# Altium schematic symbol library Driver.SchLib: 24 symbols
Pins are listed as number, name and electrical type; pins without a type are passive.

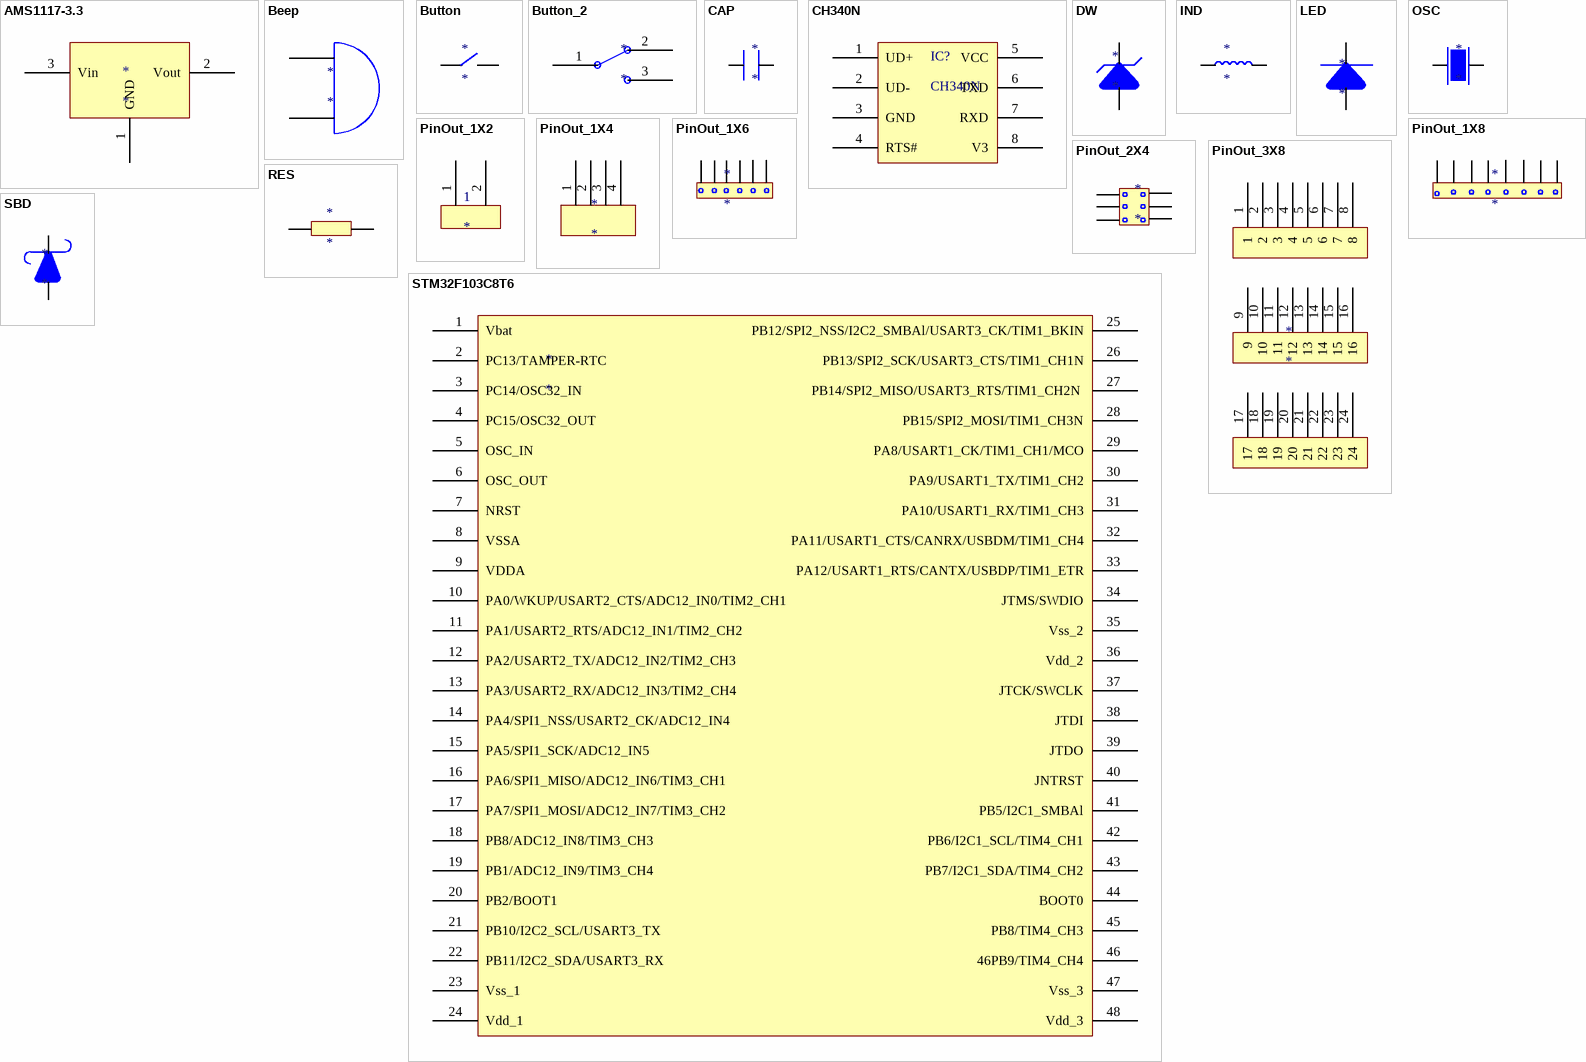
[diagram p0: symbols AMS1117-3.3 to STM32F103C8T6]

## AMS1117-3.3
designator *
pins: 1 GND, 2 Vout, 3 Vin

## Beep
designator *
pins: 1, 2

## Button
designator *
pins: 1, 2

## Button_2
designator *
pins: 1, 2, 3

## CAP
designator *
pins: 1, 2

## CH340N
designator IC?
pins: 1 UD+, 2 UD-, 3 GND, 4 RTS#, 5 VCC, 6 TXD, 7 RXD, 8 V3

## DW
designator *
pins: 1 -, 2 +

## IND
designator *
pins: 1, 2

## LED
designator *
pins: 1 -, 2 +

## OSC
designator *
pins: 1, 2

## PinOut_1X2
designator 1
pins: 1, 2

## PinOut_1X4
designator *
pins: 1, 2, 3, 4

## PinOut_1X6
designator *
pins: 1, 2, 3, 4, 5, 6

## PinOut_1X8
designator *
pins: 1, 2, 3, 4, 5, 6, 7, 8

## PinOut_2X4
designator *
pins: 1, 2, 3, 4, 5, 6

## PinOut_3X8
designator *
pins: 1, 2, 3, 4, 5, 6, 7, 8, 9, 10, 11, 12, 13, 14, 15, 16, 17, 18, 19, 20, 21, 22, 23, 24

## RES
designator *
pins: 1, 2

## SBD
designator *
pins: 1, 2

## STM32F103C8T6
designator *
pins: 1 Vbat, 2 PC13/TAMPER-RTC, 3 PC14/OSC32_IN, 4 PC15/OSC32_OUT, 5 OSC_IN, 6 OSC_OUT, 7 NRST, 8 VSSA, 9 VDDA, 10 PA0/WKUP/USART2_CTS/ADC12_IN0/TIM2_CH1, 11 PA1/USART2_RTS/ADC12_IN1/TIM2_CH2, 12 PA2/USART2_TX/ADC12_IN2/TIM2_CH3, 13 PA3/USART2_RX/ADC12_IN3/TIM2_CH4, 14 PA4/SPI1_NSS/USART2_CK/ADC12_IN4, 15 PA5/SPI1_SCK/ADC12_IN5, 16 PA6/SPI1_MISO/ADC12_IN6/TIM3_CH1, 17 PA7/SPI1_MOSI/ADC12_IN7/TIM3_CH2, 18 PB8/ADC12_IN8/TIM3_CH3, 19 PB1/ADC12_IN9/TIM3_CH4, 20 PB2/BOOT1, 21 PB10/I2C2_SCL/USART3_TX, 22 PB11/I2C2_SDA/USART3_RX, 23 Vss_1, 24 Vdd_1, 25 PB12/SPI2_NSS/I2C2_SMBAl/USART3_CK/TIM1_BKIN, 26 PB13/SPI2_SCK/USART3_CTS/TIM1_CH1N, 27 PB14/SPI2_MISO/USART3_RTS/TIM1_CH2N , 28 PB15/SPI2_MOSI/TIM1_CH3N, 29 PA8/USART1_CK/TIM1_CH1/MCO, 30 PA9/USART1_TX/TIM1_CH2, 31 PA10/USART1_RX/TIM1_CH3, 32 PA11/USART1_CTS/CANRX/USBDM/TIM1_CH4, 33 PA12/USART1_RTS/CANTX/USBDP/TIM1_ETR, 34 JTMS/SWDIO, 35 Vss_2, 36 Vdd_2, 37 JTCK/SWCLK, 38 JTDI, 39 JTDO, 40 JNTRST, 41 PB5/I2C1_SMBAl, 42 PB6/I2C1_SCL/TIM4_CH1, 43 PB7/I2C1_SDA/TIM4_CH2, 44 BOOT0, 45 PB8/TIM4_CH3, 46 46PB9/TIM4_CH4, 47 Vss_3, 48 Vdd_3

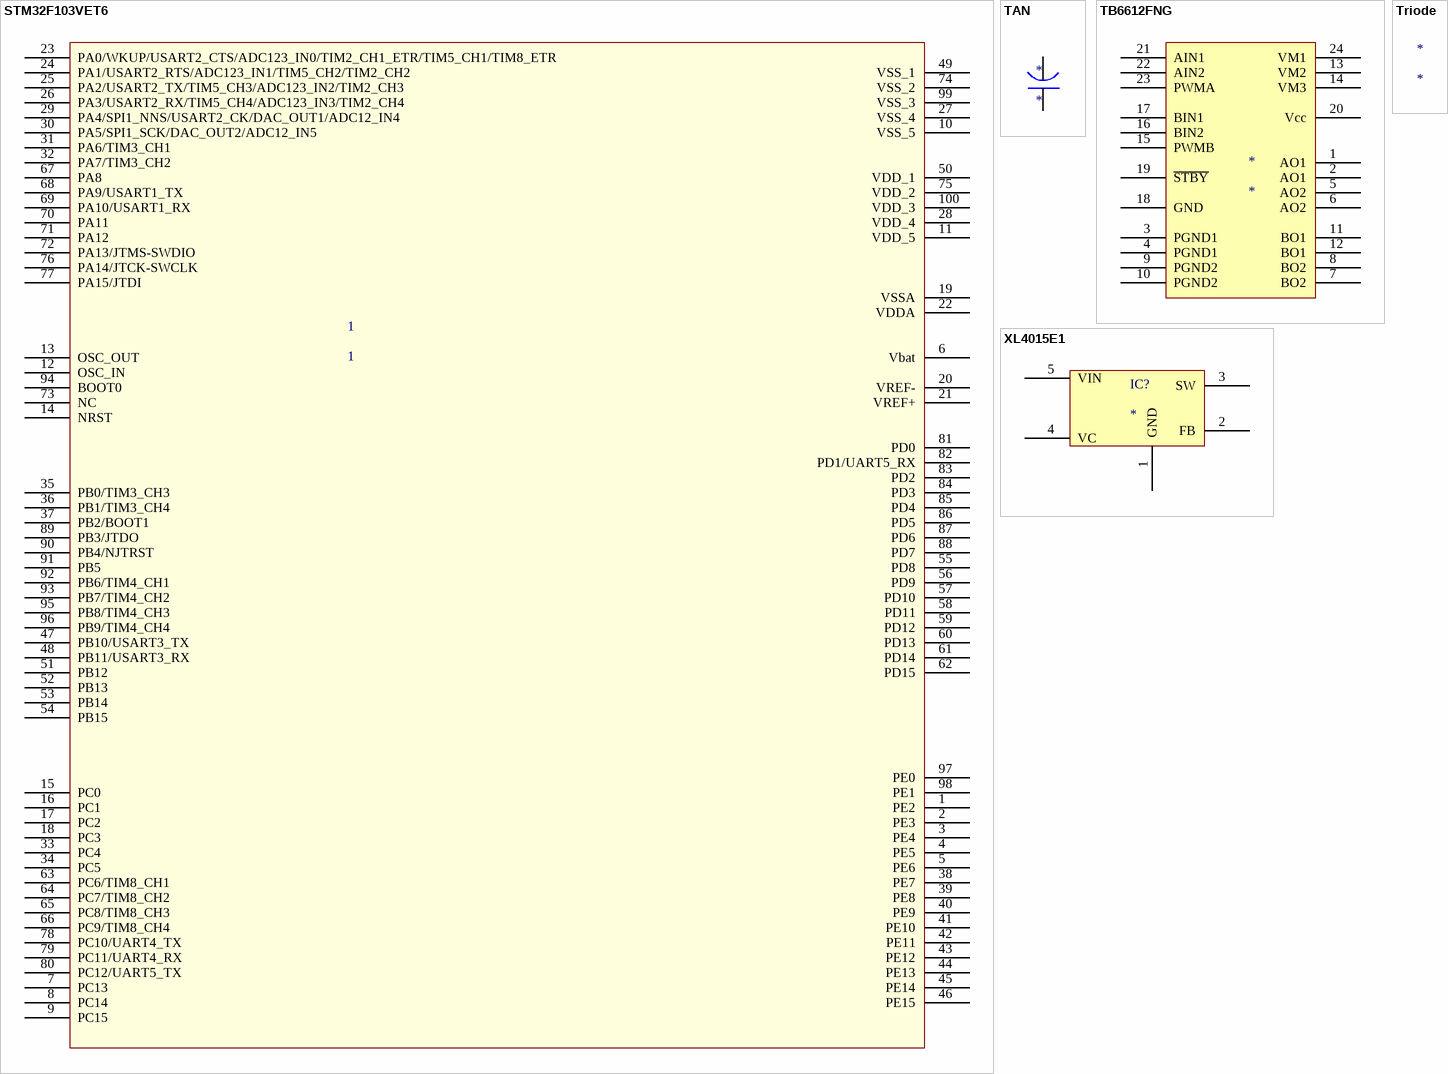
[diagram p1: symbols STM32F103VET6 to XL4015E1]

## STM32F103VET6
designator 1, comment 1
pins: 1 PE2, 2 PE3, 3 PE4, 4 PE5, 5 PE6, 6 Vbat, 7 PC13, 8 PC14, 9 PC15, 10 VSS_5, 11 VDD_5, 12 OSC_IN, 13 OSC_OUT, 14 NRST, 15 PC0, 16 PC1, 17 PC2, 18 PC3, 19 VSSA, 20 VREF-, 21 VREF+, 22 VDDA, 23 PA0/WKUP/USART2_CTS/ADC123_IN0/TIM2_CH1_ETR/TIM5_CH1/TIM8_ETR, 24 PA1/USART2_RTS/ADC123_IN1/TIM5_CH2/TIM2_CH2, 25 PA2/USART2_TX/TIM5_CH3/ADC123_IN2/TIM2_CH3, 26 PA3/USART2_RX/TIM5_CH4/ADC123_IN3/TIM2_CH4, 27 VSS_4, 28 VDD_4, 29 PA4/SPI1_NNS/USART2_CK/DAC_OUT1/ADC12_IN4, 30 PA5/SPI1_SCK/DAC_OUT2/ADC12_IN5, 31 PA6/TIM3_CH1, 32 PA7/TIM3_CH2, 33 PC4, 34 PC5, 35 PB0/TIM3_CH3, 36 PB1/TIM3_CH4, 37 PB2/BOOT1, 38 PE7, 39 PE8, 40 PE9, 41 PE10, 42 PE11, 43 PE12, 44 PE13, 45 PE14, 46 PE15, 47 PB10/USART3_TX, 48 PB11/USART3_RX, 49 VSS_1, 50 VDD_1, 51 PB12, 52 PB13, 53 PB14, 54 PB15, 55 PD8, 56 PD9, 57 PD10, 58 PD11, 59 PD12, 60 PD13, 61 PD14, 62 PD15, 63 PC6/TIM8_CH1, 64 PC7/TIM8_CH2, 65 PC8/TIM8_CH3, 66 PC9/TIM8_CH4, 67 PA8, 68 PA9/USART1_TX, 69 PA10/USART1_RX, 70 PA11, 71 PA12, 72 PA13/JTMS-SWDIO, 73 NC, 74 VSS_2, 75 VDD_2, 76 PA14/JTCK-SWCLK, 77 PA15/JTDI, 78 PC10/UART4_TX, 79 PC11/UART4_RX, 80 PC12/UART5_TX, 81 PD0, 82 PD1/UART5_RX, 83 PD2, 84 PD3, 85 PD4, 86 PD5, 87 PD6, 88 PD7, 89 PB3/JTDO, 90 PB4/NJTRST, 91 PB5, 92 PB6/TIM4_CH1, 93 PB7/TIM4_CH2, 94 BOOT0, 95 PB8/TIM4_CH3, 96 PB9/TIM4_CH4, 97 PE0, 98 PE1, 99 VSS_3, 100 VDD_3

## TAN
designator *
pins: 1, 2

## TB6612FNG
designator *
pins: 1 AO1, 2 AO1, 3 PGND1, 4 PGND1, 5 AO2, 6 AO2, 7 BO2, 8 BO2, 9 PGND2, 10 PGND2, 11 BO1, 12 BO1, 13 VM2, 14 VM3, 15 PWMB, 16 BIN2, 17 BIN1, 18 GND, 19 ~{STBY}, 20 Vcc, 21 AIN1, 22 AIN2, 23 PWMA, 24 VM1

## Triode
designator *

## XL4015E1
designator IC?
pins: 1 GND, 2 FB, 3 SW, 4 VC, 5 VIN